# Altium integrated library lab03.IntLib: 4 symbols
Pins are listed as number, name and electrical type; pins without a type are passive.

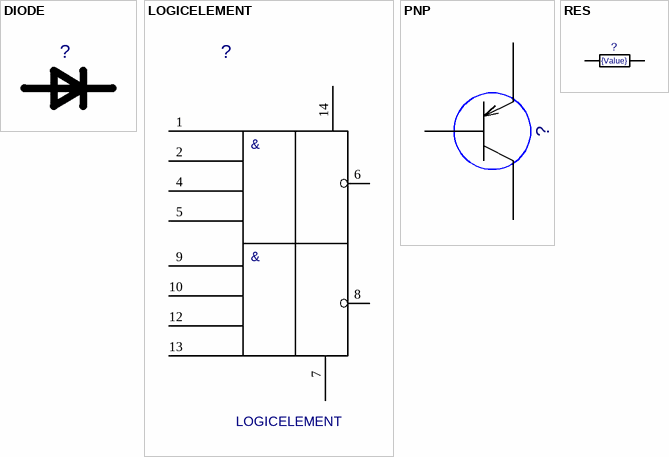
[diagram p0: symbols DIODE to RES]

## DIODE
designator ?  (value not drawn)
Value: *
footprint DIODE
pins: 1, 2

## LOGICELEMENT
designator ?
Value: *
footprint LOGICELEMENT_LOGICELEMENT(Primary)
pins: 1, 2, 4, 5, 6, 7, 8, 9, 10, 12, 13, 14
text: &

## PNP
designator ?  (value not drawn)
Value: *
footprint KT-27 (2002)
pins: 1, 2, 3

## RES
designator ?  value {Value}  (hidden comment: RES)
Resistor; ComponentField6: Published 8-Jun-2000; OriginalName: RES
simulation model RESISTOR
footprint RES
pins: 1, 2